# Altium footprint library 继电器.PcbLib: 4 footprints
Each footprint in its own frame and in the unit in brackets; x right, y up, seen from the top. Pads: shape width x height; smd on the part's side, far side on the other; paste and mask are expansions set on the pad; w line width, h text height; cw(c..) or ccw(c..) is an arc to the next point about the centre after c.
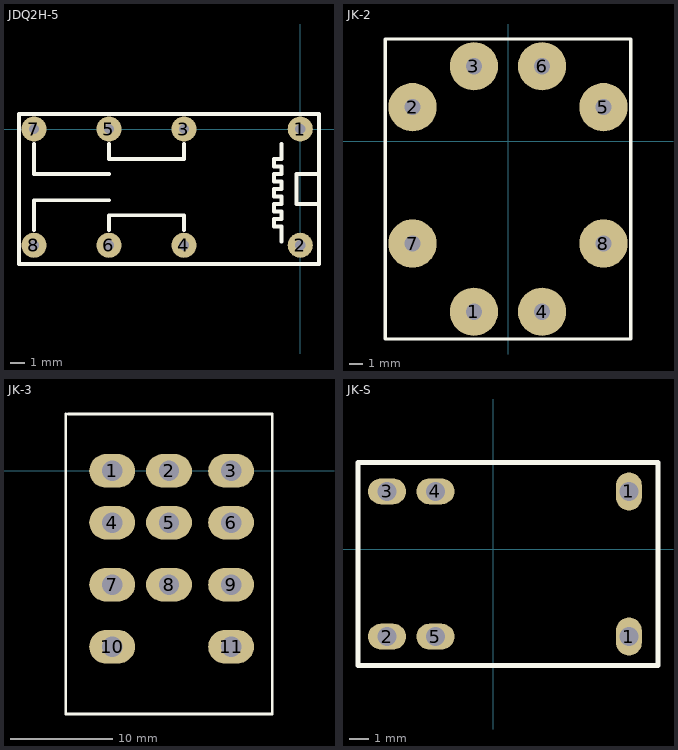
[diagram p0: the footprints below, top view; thin cyan lines are the x and y axes]

## JDQ2H-5 [mm]
pads (8):
  round 1.7 hole 0.7: 1(0,0) 2(0,-7.874) 3(-7.874,0) 4(-7.874,-7.874) 5(-12.954,0) 6(-12.954,-7.874) 7(-18.034,0) 8(-18.034,-7.874)
TopOverlay:
  lines w0.254: -18.034,-6.858 -18.034,-4.826 -12.954,-4.826 ; -18.034,-1.016 -18.034,-3.048 -12.954,-3.048 ; -12.954,-6.858 -12.954,-5.842 -7.874,-5.842 -7.874,-6.858 ; -12.954,-1.016 -12.954,-2.032 -7.874,-2.032 -7.874,-1.016 ; -1.27,-7.62 -1.27,-6.604 -1.778,-6.604 -1.778,-6.096 -1.27,-6.096 -1.27,-5.588 -1.778,-5.588 -1.778,-5.08 -1.27,-5.08 -1.27,-4.572 -1.778,-4.572 -1.778,-4.064 -1.27,-4.064 -1.27,-3.556 -1.778,-3.556 -1.778,-3.048 -1.27,-3.048 -1.27,-2.54 -1.778,-2.54 -1.778,-2.032 -1.27,-2.032 -1.27,-1.016 ; 1.27,-5.08 -0.254,-5.08 -0.254,-4.572 -0.254,-3.048 1.27,-3.048 ; -19.05,-9.144 -19.05,1.016 1.27,1.016 1.27,-9.144 -19.05,-9.144

## JK-2 [mm]
pads (8):
  round 3.6 hole 1.2: 1(-2.54,-12.7) 2(-7.112,2.54) 3(-2.54,5.588) 4(2.54,-12.7) 5(7.112,2.54) 6(2.54,5.588) 7(-7.112,-7.62) 8(7.112,-7.62)
TopOverlay:
  lines w0.254: -9.144,-14.732 -9.144,7.62 9.144,7.62 9.144,-14.732 -9.144,-14.732

## JK-3 [mil]
pads (11):
  oval 177.16x130 hole 78.74: 1(560,0) 2(780,0) 3(1020,0) 4(560,-200) 5(780,-200) 6(1020,-200) 7(560,-440) 8(780,-440) 9(1020,-440) 10(560,-680) 11(1020,-680)
TopOverlay:
  lines w10: 380,220 380,-940 1180,-940 1180,220 390,220

## JK-S [mm]
pads (6):
  oval 1.35x2 hole 1: 1(7.112,-4.572) 1(7.112,3.048)
  oval 2x1.35 hole 1: 2(-5.588,-4.572) 3(-5.588,3.048) 4(-3.048,3.048) 5(-3.048,-4.572)
TopOverlay:
  lines w0.254: -7.112,3.556 -7.112,4.572 -6.604,4.572 8.636,4.572 8.636,3.556 ; -7.112,4.064 -7.112,-6.096 -6.604,-6.096 8.636,-6.096 8.636,4.064